# EAGLE library part MCP23S08 (library MCP23S08 - 8-Bit IO Expander with Serial Interface)
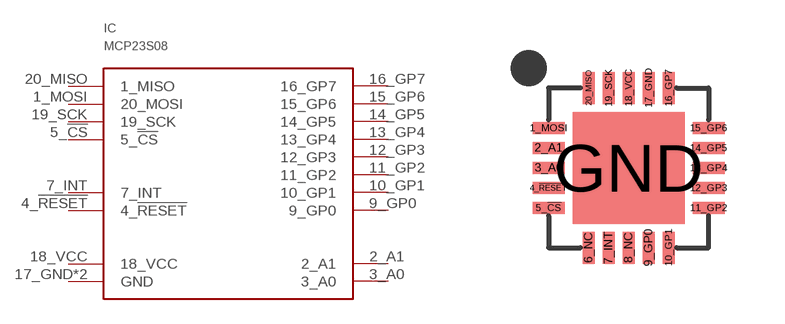
[diagram p0: symbol with the pads of QFN20; footprint QFN20]

Designator prefix IC

## MCP23S08  [QFN20]
1_MOSI  20_MOSI  in
2_A1  2_A1  in
3_A0  3_A0  in
4_!RESET!  4_!RESET!  in
5_!CS!  5_!CS!  in
7_INT  7_INT  out
9_GP0  9_GP0
10_GP1  10_GP1
11_GP2  11_GP2
12_GP3  12_GP3
13_GP4  13_GP4
14_GP5  14_GP5
15_GP6  15_GP6
16_GP7  16_GP7
17_GND  GND  pwr
18_VCC  18_VCC  pwr
19_SCK  19_SCK  in
20_MISO  1_MISO  out
GND  GND  pwr

## Footprint QFN20 (pad centres in mm)
smd 0.8 x 0.3: 1_MOSI -2,1; 2_A1 -2,0.5; 3_A0 -2,0; 4_!RESET! -2,-0.5; 5_!CS! -2,-1; 11_GP2 2,-1; 12_GP3 2,-0.5; 13_GP4 2,0; 14_GP5 2,0.5; 15_GP6 2,1
smd 0.3 x 0.8: 6_NC -1,-2; 7_INT -0.5,-2; 8_NC 0,-2; 9_GP0 0.5,-2; 10_GP1 1,-2; 16_GP7 1,2; 17_GND 0.5,2; 18_VCC 0,2; 19_SCK -0.5,2; 20_MISO -1,2
smd 2.8 x 2.8: GND 0,0